# Altium schematic symbol library 15492542-B_A-K.SchLib: 1 symbol
Pins are listed as number, name and electrical type; pins without a type are passive.

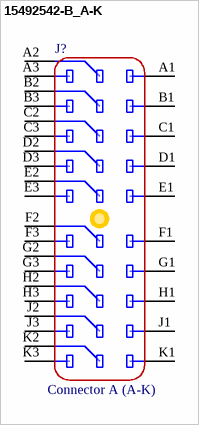
[diagram p0: symbol 15492542-B_A-K]

## 15492542-B_A-K
designator J?  Type: Connector A (A-K)  (hidden comment: 15492542-B_A-K)
CONNECTOR; Manufacturer: Delphi; Value: Cable 30 Pin; Supplier 1 Part Number: 829-15492542-B; CMW P/N: 15492542-B_A-K; HelpURL: http://www.mouser.com/ProductDetail/Delphi-Connection-Systems/15492542-B/?qs=L4FwfU3379Ut47DY%252b2/glw==; Manufacturer P/N: 15492542-B; Supplier 1: Mouser
pins: A1 DOUT0, A2 PWB, A3 PWA, B1 DOUT1, B2 DIN0, B3 AIN0, C1 DOUT2, C2 DIN1, C3 AIN1, D1 DOUT3, D2 DIN2, D3 AIN2, E1 DOUT4, E2 DIN3, E3 AIN3, F1 DOUT5, F2 DIN4, F3 AIN4, G1 DOUT6, G2 DIN5, G3 AIN5, H1 DOUT7, H2 DIN6, H3 AIN6, J1 TP6, J2 DIN7, J3 AIN7, K1 TP7, K2 TP0, K3 AIN8
1 alternate drawing of the same symbol